# Altium integrated library TI Data Converters Analog to Digital Converter.IntLib: 2198 symbols (part 148 of 164)
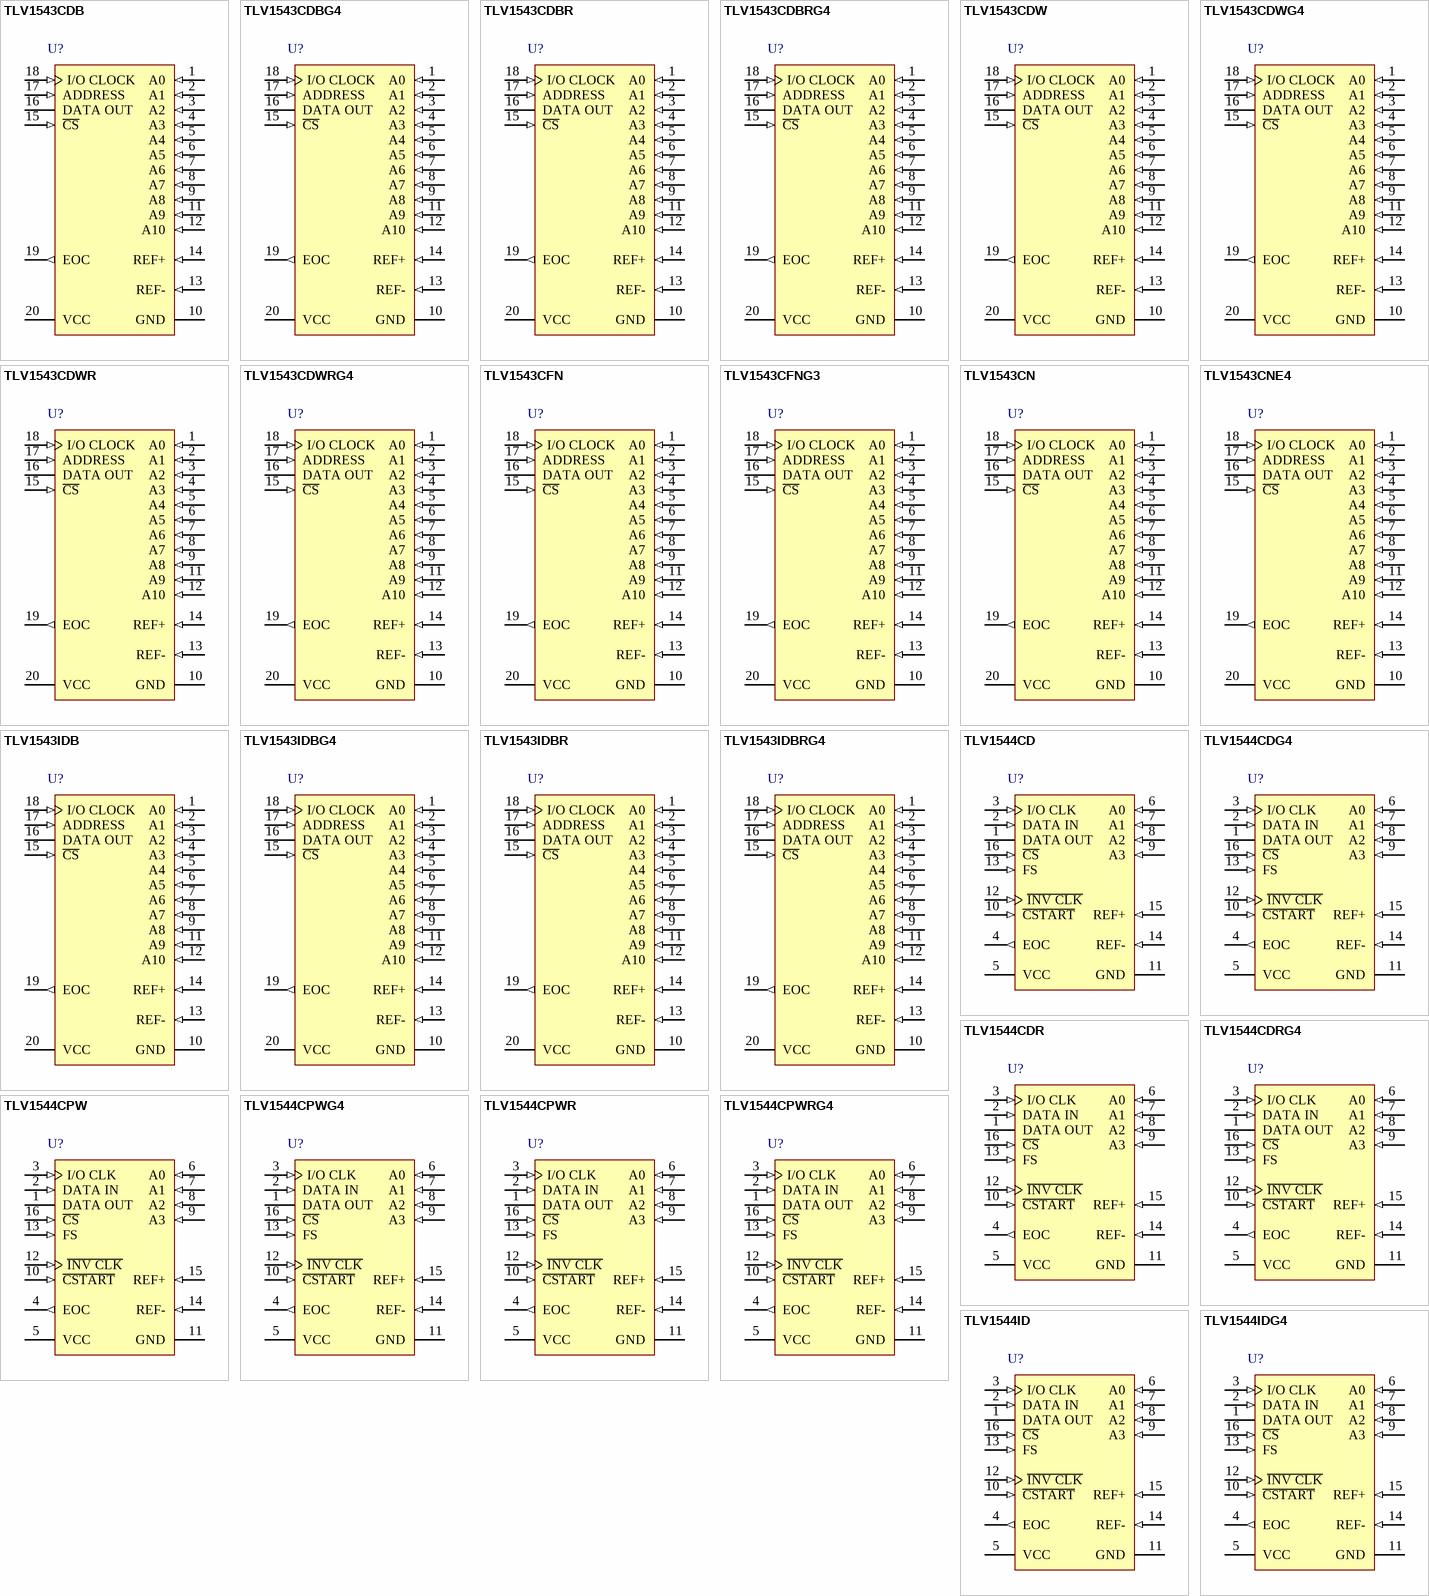
[diagram p273: symbols TLV1543CDB to TLV1544IDG4]

## TLV1543IDBR
designator U?
10-Bit 200 kSPS ADC Serial Out, Built-In Self-Test Mode, Inherent S&H, Pin Compatible with TLC1543, 11 Channel, -40 to 85 degC, 20-pin SOP (DB20), Green (RoHS & no Sb/Br); Manufacturer: Texas Instruments; PartNumber: TLV1543IDBR; # Input Channels: 11; Analog Voltage AV/DD(Max)(V): 5.5; Analog Voltage AV/DD(Min)(V): 3; Architecture: SAR; INL(Max)(+/-LSB): 1; Interface: Serial SPI; Resolution(Bits): 10; Sample Rate (max)(SPS): 38k; SubFamily: Precision ADC (<=10MSPS); DatasheetVersion: SLAS072E; PackageVersion: 4040065/E, 12/2001; PackageReference: DB20; PackageDescription: 20-Pin Plastic Small Outline, Body 5.3 x 7.2 mm, Pitch 0.65 mm; Supplier 1: Digi-Key; Supplier Part Number 1: ADS4226IRGCR-ND; Digital Supply(Max)(V): 5.5; Digital Supply(Min)(V): 3; Eco-Plan: Green (RoHS & no Sb/Br); Mounting Technology: Surface Mount; Code_JEDEC: MO-150; ComponentLink1Description: Manufacturer URL; ComponentLink1URL: http://www.ti.com/; ComponentLink2Description: Datasheet; ComponentLink2URL: http://www.ti.com/general/docs/lit/getliterature.tsp?genericPartNumber=TLV1543&fileType=pdf; ComponentLink3Description: Package Specification; ComponentLink3URL: http://www.ti.com/lit/ml/msso002e/msso002e.pdf
footprint TI-DB20_N (SOP, 20-Leads, Body 7.2x5.3mm, Pitch 0.65mm, IPC Medium Density)
footprint TI-DB20_L (SOP, 20-Leads, Body 7.2x5.3mm, Pitch 0.65mm, IPC High Density)
footprint TI-DB20_M (SOP, 20-Leads, Body 7.2x5.3mm, Pitch 0.65mm, IPC Low Density)
pins: 1 A0 (in) "Analog signal inputs. The 11 analog inputs are applied to these terminals and are internally multiplexed. The driving source impedance should be less than or equal to 1 kohm.", 2 A1 (in) "Analog signal inputs. The 11 analog inputs are applied to these terminals and are internally multiplexed. The driving source impedance should be less than or equal to 1 kohm.", 3 A2 (in) "Analog signal inputs. The 11 analog inputs are applied to these terminals and are internally multiplexed. The driving source impedance should be less than or equal to 1 kohm.", 4 A3 (in) "Analog signal inputs. The 11 analog inputs are applied to these terminals and are internally multiplexed. The driving source impedance should be less than or equal to 1 kohm.", 5 A4 (in) "Analog signal inputs. The 11 analog inputs are applied to these terminals and are internally multiplexed. The driving source impedance should be less than or equal to 1 kohm.", 6 A5 (in) "Analog signal inputs. The 11 analog inputs are applied to these terminals and are internally multiplexed. The driving source impedance should be less than or equal to 1 kohm.", 7 A6 (in) "Analog signal inputs. The 11 analog inputs are applied to these terminals and are internally multiplexed. The driving source impedance should be less than or equal to 1 kohm.", 8 A7 (in) "Analog signal inputs. The 11 analog inputs are applied to these terminals and are internally multiplexed. The driving source impedance should be less than or equal to 1 kohm.", 9 A8 (in) "Analog signal inputs. The 11 analog inputs are applied to these terminals and are internally multiplexed. The driving source impedance should be less than or equal to 1 kohm.", 10 GND (power) "The ground return terminal for the internal circuitry. Unless otherwise noted, all voltage measurements are with respect to this terminal.", 11 A9 (in) "Analog signal inputs. The 11 analog inputs are applied to these terminals and are internally multiplexed. The driving source impedance should be less than or equal to 1 kohm.", 12 A10 (in) "Analog signal inputs. The 11 analog inputs are applied to these terminals and are internally multiplexed. The driving source impedance should be less than or equal to 1 kohm.", 13 REF- (in) "The lower reference voltage value (nominally ground) is applied to this terminal.", 14 REF+ (in) "The upper reference voltage value (nominally VCC) is applied to this terminal. The maximum input voltage range is determined by the difference between the voltage applied to this terminal and the voltage applied to the REF- (See Datasheet)", 15 ~{CS} (in) "Chip select. A high-to-low transition on this input resets the internal counters and controls and enables DATA OUT, ADDRESS, and I/O CLOCK within a maximum of a setup time plus two falling edges of the internal system clock. (See Datasheet)", 16 DATA OUT (hiz) "The 3-state serial output for the A/D conversion result. This output is in the high-impedance state when C\S\ is high and active when C\S\ is low. With a valid chip select, DATA OUT is removed from the high-impedance state (See Datasheet)", 17 ADDRESS (in) "Serial address input. A 4-bit serial address selects the desired analog input or test voltage that is to be converted next. The address data is presented with the MSB first and shifts in on the first four rising edges of I/O (See Datasheet)", 18 I/O CLOCK (in) "Input/output clock. This terminal receives the serial I/O CLOCK input and performs the following four functions: 1) It clocks the four input address bits into the address register on the first four rising edges of the I/O (See Datasheet)", 19 EOC (out) "End of conversion. This output goes from a high to a low logic level on the trailing edge of the tenth I/O CLOCK and remains low until the conversion is complete and data are ready for transfer.", 20 VCC (power) "Positive supply voltage"

## TLV1543IDBRG4
designator U?
10-Bit 200 kSPS ADC Serial Out, Built-In Self-Test Mode, Inherent S&H, Pin Compatible with TLC1543, 11 Channel, -40 to 85 degC, 20-pin SOP (DB20), Green (RoHS & no Sb/Br); Manufacturer: Texas Instruments; PartNumber: TLV1543IDBRG4; # Input Channels: 11; Analog Voltage AV/DD(Max)(V): 5.5; Analog Voltage AV/DD(Min)(V): 3; Architecture: SAR; INL(Max)(+/-LSB): 1; Interface: Serial SPI; Resolution(Bits): 10; Sample Rate (max)(SPS): 38k; SubFamily: Precision ADC (<=10MSPS); DatasheetVersion: SLAS072E; PackageVersion: 4040065/E, 12/2001; PackageReference: DB20; PackageDescription: 20-Pin Plastic Small Outline, Body 5.3 x 7.2 mm, Pitch 0.65 mm; Supplier 1: Digi-Key; Supplier Part Number 1: 296-28366-2-ND; Digital Supply(Max)(V): 5.5; Digital Supply(Min)(V): 3; Eco-Plan: Green (RoHS & no Sb/Br); Mounting Technology: Surface Mount; Code_JEDEC: MO-150; ComponentLink1Description: Manufacturer URL; ComponentLink1URL: http://www.ti.com/; ComponentLink2Description: Datasheet; ComponentLink2URL: http://www.ti.com/general/docs/lit/getliterature.tsp?genericPartNumber=TLV1543&fileType=pdf; ComponentLink3Description: Package Specification; ComponentLink3URL: http://www.ti.com/lit/ml/msso002e/msso002e.pdf
footprint TI-DB20_N (SOP, 20-Leads, Body 7.2x5.3mm, Pitch 0.65mm, IPC Medium Density)
footprint TI-DB20_L (SOP, 20-Leads, Body 7.2x5.3mm, Pitch 0.65mm, IPC High Density)
footprint TI-DB20_M (SOP, 20-Leads, Body 7.2x5.3mm, Pitch 0.65mm, IPC Low Density)
pins: 1 A0 (in) "Analog signal inputs. The 11 analog inputs are applied to these terminals and are internally multiplexed. The driving source impedance should be less than or equal to 1 kohm.", 2 A1 (in) "Analog signal inputs. The 11 analog inputs are applied to these terminals and are internally multiplexed. The driving source impedance should be less than or equal to 1 kohm.", 3 A2 (in) "Analog signal inputs. The 11 analog inputs are applied to these terminals and are internally multiplexed. The driving source impedance should be less than or equal to 1 kohm.", 4 A3 (in) "Analog signal inputs. The 11 analog inputs are applied to these terminals and are internally multiplexed. The driving source impedance should be less than or equal to 1 kohm.", 5 A4 (in) "Analog signal inputs. The 11 analog inputs are applied to these terminals and are internally multiplexed. The driving source impedance should be less than or equal to 1 kohm.", 6 A5 (in) "Analog signal inputs. The 11 analog inputs are applied to these terminals and are internally multiplexed. The driving source impedance should be less than or equal to 1 kohm.", 7 A6 (in) "Analog signal inputs. The 11 analog inputs are applied to these terminals and are internally multiplexed. The driving source impedance should be less than or equal to 1 kohm.", 8 A7 (in) "Analog signal inputs. The 11 analog inputs are applied to these terminals and are internally multiplexed. The driving source impedance should be less than or equal to 1 kohm.", 9 A8 (in) "Analog signal inputs. The 11 analog inputs are applied to these terminals and are internally multiplexed. The driving source impedance should be less than or equal to 1 kohm.", 10 GND (power) "The ground return terminal for the internal circuitry. Unless otherwise noted, all voltage measurements are with respect to this terminal.", 11 A9 (in) "Analog signal inputs. The 11 analog inputs are applied to these terminals and are internally multiplexed. The driving source impedance should be less than or equal to 1 kohm.", 12 A10 (in) "Analog signal inputs. The 11 analog inputs are applied to these terminals and are internally multiplexed. The driving source impedance should be less than or equal to 1 kohm.", 13 REF- (in) "The lower reference voltage value (nominally ground) is applied to this terminal.", 14 REF+ (in) "The upper reference voltage value (nominally VCC) is applied to this terminal. The maximum input voltage range is determined by the difference between the voltage applied to this terminal and the voltage applied to the REF- (See Datasheet)", 15 ~{CS} (in) "Chip select. A high-to-low transition on this input resets the internal counters and controls and enables DATA OUT, ADDRESS, and I/O CLOCK within a maximum of a setup time plus two falling edges of the internal system clock. (See Datasheet)", 16 DATA OUT (hiz) "The 3-state serial output for the A/D conversion result. This output is in the high-impedance state when C\S\ is high and active when C\S\ is low. With a valid chip select, DATA OUT is removed from the high-impedance state (See Datasheet)", 17 ADDRESS (in) "Serial address input. A 4-bit serial address selects the desired analog input or test voltage that is to be converted next. The address data is presented with the MSB first and shifts in on the first four rising edges of I/O (See Datasheet)", 18 I/O CLOCK (in) "Input/output clock. This terminal receives the serial I/O CLOCK input and performs the following four functions: 1) It clocks the four input address bits into the address register on the first four rising edges of the I/O (See Datasheet)", 19 EOC (out) "End of conversion. This output goes from a high to a low logic level on the trailing edge of the tenth I/O CLOCK and remains low until the conversion is complete and data are ready for transfer.", 20 VCC (power) "Positive supply voltage"

## TLV1544CD
designator U?
10-Bit 85 kSPS ADC Serial Out, Programable Power / Power Down / Conversion Rate, TMS320 DSP / SPI / QPSI Compatible, 4 Channel, 0 to 70 degC, 16-pin SOIC (D16), Green (RoHS & no Sb/Br); Manufacturer: Texas Instruments; PartNumber: TLV1544CD; # Input Channels: 4; Analog Voltage AV/DD(Max)(V): 5.5; Analog Voltage AV/DD(Min)(V): 2.7; Architecture: SAR; INL(Max)(+/-LSB): 1; Interface: Serial SPI; Resolution(Bits): 10; Sample Rate (max)(SPS): 85k; SubFamily: Precision ADC (<=10MSPS); DatasheetVersion: SLAS139C; PackageVersion: 4040047-6/M, 06/2011; PackageReference: D16; PackageDescription: 16-Pin Plastic Small Outline, Body 9.9 x 3.9 mm, Pitch 1.27 mm; Supplier 1: Digi-Key; Supplier Part Number 1: ADS1298RIZXGR-ND; Digital Supply(Max)(V): 5.5; Digital Supply(Min)(V): 2.7; Eco-Plan: Green (RoHS & no Sb/Br); Mounting Technology: Surface Mount; Code_JEDEC: MS-012; ComponentLink1Description: Manufacturer URL; ComponentLink1URL: http://www.ti.com/; ComponentLink2Description: Datasheet; ComponentLink2URL: http://www.ti.com/general/docs/lit/getliterature.tsp?genericPartNumber=TLV1544&fileType=pdf; ComponentLink3Description: Package Specification; ComponentLink3URL: http://www.ti.com/litv/pdf/mpds178g
footprint TI-D16_N (SOIC, 16-Leads, Body 9.9x3.9mm, Pitch 1.27mm, IPC Medium Density)
footprint TI-D16_L (SOIC, 16-Leads, Body 9.9x3.9mm, Pitch 1.27mm, IPC High Density)
footprint TI-D16_M (SOIC, 16-Leads, Body 9.9x3.9mm, Pitch 1.27mm, IPC Low Density)
pins: 1 DATA OUT (hiz) "Three-state serial output of the A/D conversion result. DATA OUT is in the high-impedance state when C\S\ is high and active when C\S\ is low or after FS (in DSP mode). With a valid C\S\ signal, DATA OUT is removed from the (See Datasheet)", 2 DATA IN (in) "Serial data input. The 4-bit serial data selects the desired analog input and test voltage to be converted next in a normal cycle. These bits can also set the conversion rate and enable the power-down mode. When operating in (See Datasheet)", 3 I/O CLK (in) "Input/output clock.", 4 EOC (out) "End of conversion. EOC goes from a high to a low logic level on the tenth rising (microprocessor mode) or tenth falling (DSP mode) edge of I/O CLK and remains low until the conversion is complete and data is ready for (See Datasheet)", 5 VCC (power) "Positive supply voltage", 6 A0 (in) "Analog inputs. The analog inputs are internally multiplexed. (For a source impedance greater than 1 kW, the asynchronous start should be used to increase the sampling time.)", 7 A1 (in) "Analog inputs. The analog inputs are internally multiplexed. (For a source impedance greater than 1 kW, the asynchronous start should be used to increase the sampling time.)", 8 A2 (in) "Analog inputs. The analog inputs are internally multiplexed. (For a source impedance greater than 1 kW, the asynchronous start should be used to increase the sampling time.)", 9 A3 (in) "Analog inputs. The analog inputs are internally multiplexed. (For a source impedance greater than 1 kW, the asynchronous start should be used to increase the sampling time.)", 10 ~{CSTART} (in) "Sampling/conversion start control. C\S\T\A\R\T\ controls the start of the sampling of an analog input from a selected multiplex channel. A high-to-low transition starts the sampling of the analog input signal. A low-to-high (See Datasheet)", 11 GND (power) "Ground return for internal circuitry. All voltage measurements are with respect to GND, unless otherwise noted.", 12 ~{INV CLK} (in) "Inverted clock input. I\N\V\ \C\L\K\ is tied to GND when an inverted I/O CLK is used as the source of the input clock. This affects both microprocessor and DSP interfaces. I\N\V\ \C\L\K\ is tied to VCC if I/O CLK is not (See Datasheet)", 13 FS (in) "DSP frame synchronization input. FS indicates the start of a serial data frame into or out of the device. FS is tied to VCC when interfacing the device with a microprocessor.", 14 REF- (in) "Lower reference voltage (nominally ground)", 15 REF+ (in) "Upper reference voltage (nominally VCC ). The maximum input voltage range is determined by the difference between the voltages applied to REF+ and REF-.", 16 ~{CS} (in) "Chip select. A high-to-low transition on C\S\ resets the internal counters and controls and enables DATA IN, DATA OUT, and I/O CLK within the maximum setup time. A low-to-high transition disables DATA IN, DATA OUT, and I/O (See Datasheet)"

## TLV1544CDG4
designator U?
10-Bit 85 kSPS ADC Serial Out, Programable Power / Power Down / Conversion Rate, TMS320 DSP / SPI / QPSI Compatible, 4 Channel, 0 to 70 degC, 16-pin SOIC (D16), Green (RoHS & no Sb/Br); Manufacturer: Texas Instruments; PartNumber: TLV1544CDG4; # Input Channels: 4; Analog Voltage AV/DD(Max)(V): 5.5; Analog Voltage AV/DD(Min)(V): 2.7; Architecture: SAR; INL(Max)(+/-LSB): 1; Interface: Serial SPI; Resolution(Bits): 10; Sample Rate (max)(SPS): 85k; SubFamily: Precision ADC (<=10MSPS); DatasheetVersion: SLAS139C; PackageVersion: 4040047-6/M, 06/2011; PackageReference: D16; PackageDescription: 16-Pin Plastic Small Outline, Body 9.9 x 3.9 mm, Pitch 1.27 mm; Supplier 1: Digi-Key; Supplier Part Number 1: 296-28273-2-ND; Digital Supply(Max)(V): 5.5; Digital Supply(Min)(V): 2.7; Eco-Plan: Green (RoHS & no Sb/Br); Mounting Technology: Surface Mount; Code_JEDEC: MS-012; ComponentLink1Description: Manufacturer URL; ComponentLink1URL: http://www.ti.com/; ComponentLink2Description: Datasheet; ComponentLink2URL: http://www.ti.com/general/docs/lit/getliterature.tsp?genericPartNumber=TLV1544&fileType=pdf; ComponentLink3Description: Package Specification; ComponentLink3URL: http://www.ti.com/litv/pdf/mpds178g
footprint TI-D16_N (SOIC, 16-Leads, Body 9.9x3.9mm, Pitch 1.27mm, IPC Medium Density)
footprint TI-D16_L (SOIC, 16-Leads, Body 9.9x3.9mm, Pitch 1.27mm, IPC High Density)
footprint TI-D16_M (SOIC, 16-Leads, Body 9.9x3.9mm, Pitch 1.27mm, IPC Low Density)
pins: 1 DATA OUT (hiz) "Three-state serial output of the A/D conversion result. DATA OUT is in the high-impedance state when C\S\ is high and active when C\S\ is low or after FS (in DSP mode). With a valid C\S\ signal, DATA OUT is removed from the (See Datasheet)", 2 DATA IN (in) "Serial data input. The 4-bit serial data selects the desired analog input and test voltage to be converted next in a normal cycle. These bits can also set the conversion rate and enable the power-down mode. When operating in (See Datasheet)", 3 I/O CLK (in) "Input/output clock.", 4 EOC (out) "End of conversion. EOC goes from a high to a low logic level on the tenth rising (microprocessor mode) or tenth falling (DSP mode) edge of I/O CLK and remains low until the conversion is complete and data is ready for (See Datasheet)", 5 VCC (power) "Positive supply voltage", 6 A0 (in) "Analog inputs. The analog inputs are internally multiplexed. (For a source impedance greater than 1 kW, the asynchronous start should be used to increase the sampling time.)", 7 A1 (in) "Analog inputs. The analog inputs are internally multiplexed. (For a source impedance greater than 1 kW, the asynchronous start should be used to increase the sampling time.)", 8 A2 (in) "Analog inputs. The analog inputs are internally multiplexed. (For a source impedance greater than 1 kW, the asynchronous start should be used to increase the sampling time.)", 9 A3 (in) "Analog inputs. The analog inputs are internally multiplexed. (For a source impedance greater than 1 kW, the asynchronous start should be used to increase the sampling time.)", 10 ~{CSTART} (in) "Sampling/conversion start control. C\S\T\A\R\T\ controls the start of the sampling of an analog input from a selected multiplex channel. A high-to-low transition starts the sampling of the analog input signal. A low-to-high (See Datasheet)", 11 GND (power) "Ground return for internal circuitry. All voltage measurements are with respect to GND, unless otherwise noted.", 12 ~{INV CLK} (in) "Inverted clock input. I\N\V\ \C\L\K\ is tied to GND when an inverted I/O CLK is used as the source of the input clock. This affects both microprocessor and DSP interfaces. I\N\V\ \C\L\K\ is tied to VCC if I/O CLK is not (See Datasheet)", 13 FS (in) "DSP frame synchronization input. FS indicates the start of a serial data frame into or out of the device. FS is tied to VCC when interfacing the device with a microprocessor.", 14 REF- (in) "Lower reference voltage (nominally ground)", 15 REF+ (in) "Upper reference voltage (nominally VCC ). The maximum input voltage range is determined by the difference between the voltages applied to REF+ and REF-.", 16 ~{CS} (in) "Chip select. A high-to-low transition on C\S\ resets the internal counters and controls and enables DATA IN, DATA OUT, and I/O CLK within the maximum setup time. A low-to-high transition disables DATA IN, DATA OUT, and I/O (See Datasheet)"

## TLV1544CDR
designator U?
10-Bit 85 kSPS ADC Serial Out, Programable Power / Power Down / Conversion Rate, TMS320 DSP / SPI / QPSI Compatible, 4 Channel, 0 to 70 degC, 16-pin SOIC (D16), Green (RoHS & no Sb/Br); Manufacturer: Texas Instruments; PartNumber: TLV1544CDR; # Input Channels: 4; Analog Voltage AV/DD(Max)(V): 5.5; Analog Voltage AV/DD(Min)(V): 2.7; Architecture: SAR; INL(Max)(+/-LSB): 1; Interface: Serial SPI; Resolution(Bits): 10; Sample Rate (max)(SPS): 85k; SubFamily: Precision ADC (<=10MSPS); DatasheetVersion: SLAS139C; PackageVersion: 4040047-6/M, 06/2011; PackageReference: D16; PackageDescription: 16-Pin Plastic Small Outline, Body 9.9 x 3.9 mm, Pitch 1.27 mm; Supplier 1: Digi-Key; Supplier Part Number 1: AMC7812SPAP-ND; Digital Supply(Max)(V): 5.5; Digital Supply(Min)(V): 2.7; Eco-Plan: Green (RoHS & no Sb/Br); Mounting Technology: Surface Mount; Code_JEDEC: MS-012; ComponentLink1Description: Manufacturer URL; ComponentLink1URL: http://www.ti.com/; ComponentLink2Description: Datasheet; ComponentLink2URL: http://www.ti.com/general/docs/lit/getliterature.tsp?genericPartNumber=TLV1544&fileType=pdf; ComponentLink3Description: Package Specification; ComponentLink3URL: http://www.ti.com/litv/pdf/mpds178g
footprint TI-D16_N (SOIC, 16-Leads, Body 9.9x3.9mm, Pitch 1.27mm, IPC Medium Density)
footprint TI-D16_L (SOIC, 16-Leads, Body 9.9x3.9mm, Pitch 1.27mm, IPC High Density)
footprint TI-D16_M (SOIC, 16-Leads, Body 9.9x3.9mm, Pitch 1.27mm, IPC Low Density)
pins: 1 DATA OUT (hiz) "Three-state serial output of the A/D conversion result. DATA OUT is in the high-impedance state when C\S\ is high and active when C\S\ is low or after FS (in DSP mode). With a valid C\S\ signal, DATA OUT is removed from the (See Datasheet)", 2 DATA IN (in) "Serial data input. The 4-bit serial data selects the desired analog input and test voltage to be converted next in a normal cycle. These bits can also set the conversion rate and enable the power-down mode. When operating in (See Datasheet)", 3 I/O CLK (in) "Input/output clock.", 4 EOC (out) "End of conversion. EOC goes from a high to a low logic level on the tenth rising (microprocessor mode) or tenth falling (DSP mode) edge of I/O CLK and remains low until the conversion is complete and data is ready for (See Datasheet)", 5 VCC (power) "Positive supply voltage", 6 A0 (in) "Analog inputs. The analog inputs are internally multiplexed. (For a source impedance greater than 1 kW, the asynchronous start should be used to increase the sampling time.)", 7 A1 (in) "Analog inputs. The analog inputs are internally multiplexed. (For a source impedance greater than 1 kW, the asynchronous start should be used to increase the sampling time.)", 8 A2 (in) "Analog inputs. The analog inputs are internally multiplexed. (For a source impedance greater than 1 kW, the asynchronous start should be used to increase the sampling time.)", 9 A3 (in) "Analog inputs. The analog inputs are internally multiplexed. (For a source impedance greater than 1 kW, the asynchronous start should be used to increase the sampling time.)", 10 ~{CSTART} (in) "Sampling/conversion start control. C\S\T\A\R\T\ controls the start of the sampling of an analog input from a selected multiplex channel. A high-to-low transition starts the sampling of the analog input signal. A low-to-high (See Datasheet)", 11 GND (power) "Ground return for internal circuitry. All voltage measurements are with respect to GND, unless otherwise noted.", 12 ~{INV CLK} (in) "Inverted clock input. I\N\V\ \C\L\K\ is tied to GND when an inverted I/O CLK is used as the source of the input clock. This affects both microprocessor and DSP interfaces. I\N\V\ \C\L\K\ is tied to VCC if I/O CLK is not (See Datasheet)", 13 FS (in) "DSP frame synchronization input. FS indicates the start of a serial data frame into or out of the device. FS is tied to VCC when interfacing the device with a microprocessor.", 14 REF- (in) "Lower reference voltage (nominally ground)", 15 REF+ (in) "Upper reference voltage (nominally VCC ). The maximum input voltage range is determined by the difference between the voltages applied to REF+ and REF-.", 16 ~{CS} (in) "Chip select. A high-to-low transition on C\S\ resets the internal counters and controls and enables DATA IN, DATA OUT, and I/O CLK within the maximum setup time. A low-to-high transition disables DATA IN, DATA OUT, and I/O (See Datasheet)"

## TLV1544CDRG4
designator U?
10-Bit 85 kSPS ADC Serial Out, Programable Power / Power Down / Conversion Rate, TMS320 DSP / SPI / QPSI Compatible, 4 Channel, 0 to 70 degC, 16-pin SOIC (D16), Green (RoHS & no Sb/Br); Manufacturer: Texas Instruments; PartNumber: TLV1544CDRG4; # Input Channels: 4; Analog Voltage AV/DD(Max)(V): 5.5; Analog Voltage AV/DD(Min)(V): 2.7; Architecture: SAR; INL(Max)(+/-LSB): 1; Interface: Serial SPI; Resolution(Bits): 10; Sample Rate (max)(SPS): 85k; SubFamily: Precision ADC (<=10MSPS); DatasheetVersion: SLAS139C; PackageVersion: 4040047-6/M, 06/2011; PackageReference: D16; PackageDescription: 16-Pin Plastic Small Outline, Body 9.9 x 3.9 mm, Pitch 1.27 mm; Supplier 1: Digi-Key; Supplier Part Number 1: ADS8363SRHBR-ND; Digital Supply(Max)(V): 5.5; Digital Supply(Min)(V): 2.7; Eco-Plan: Green (RoHS & no Sb/Br); Mounting Technology: Surface Mount; Code_JEDEC: MS-012; ComponentLink1Description: Manufacturer URL; ComponentLink1URL: http://www.ti.com/; ComponentLink2Description: Datasheet; ComponentLink2URL: http://www.ti.com/general/docs/lit/getliterature.tsp?genericPartNumber=TLV1544&fileType=pdf; ComponentLink3Description: Package Specification; ComponentLink3URL: http://www.ti.com/litv/pdf/mpds178g
footprint TI-D16_N (SOIC, 16-Leads, Body 9.9x3.9mm, Pitch 1.27mm, IPC Medium Density)
footprint TI-D16_L (SOIC, 16-Leads, Body 9.9x3.9mm, Pitch 1.27mm, IPC High Density)
footprint TI-D16_M (SOIC, 16-Leads, Body 9.9x3.9mm, Pitch 1.27mm, IPC Low Density)
pins: 1 DATA OUT (hiz) "Three-state serial output of the A/D conversion result. DATA OUT is in the high-impedance state when C\S\ is high and active when C\S\ is low or after FS (in DSP mode). With a valid C\S\ signal, DATA OUT is removed from the (See Datasheet)", 2 DATA IN (in) "Serial data input. The 4-bit serial data selects the desired analog input and test voltage to be converted next in a normal cycle. These bits can also set the conversion rate and enable the power-down mode. When operating in (See Datasheet)", 3 I/O CLK (in) "Input/output clock.", 4 EOC (out) "End of conversion. EOC goes from a high to a low logic level on the tenth rising (microprocessor mode) or tenth falling (DSP mode) edge of I/O CLK and remains low until the conversion is complete and data is ready for (See Datasheet)", 5 VCC (power) "Positive supply voltage", 6 A0 (in) "Analog inputs. The analog inputs are internally multiplexed. (For a source impedance greater than 1 kW, the asynchronous start should be used to increase the sampling time.)", 7 A1 (in) "Analog inputs. The analog inputs are internally multiplexed. (For a source impedance greater than 1 kW, the asynchronous start should be used to increase the sampling time.)", 8 A2 (in) "Analog inputs. The analog inputs are internally multiplexed. (For a source impedance greater than 1 kW, the asynchronous start should be used to increase the sampling time.)", 9 A3 (in) "Analog inputs. The analog inputs are internally multiplexed. (For a source impedance greater than 1 kW, the asynchronous start should be used to increase the sampling time.)", 10 ~{CSTART} (in) "Sampling/conversion start control. C\S\T\A\R\T\ controls the start of the sampling of an analog input from a selected multiplex channel. A high-to-low transition starts the sampling of the analog input signal. A low-to-high (See Datasheet)", 11 GND (power) "Ground return for internal circuitry. All voltage measurements are with respect to GND, unless otherwise noted.", 12 ~{INV CLK} (in) "Inverted clock input. I\N\V\ \C\L\K\ is tied to GND when an inverted I/O CLK is used as the source of the input clock. This affects both microprocessor and DSP interfaces. I\N\V\ \C\L\K\ is tied to VCC if I/O CLK is not (See Datasheet)", 13 FS (in) "DSP frame synchronization input. FS indicates the start of a serial data frame into or out of the device. FS is tied to VCC when interfacing the device with a microprocessor.", 14 REF- (in) "Lower reference voltage (nominally ground)", 15 REF+ (in) "Upper reference voltage (nominally VCC ). The maximum input voltage range is determined by the difference between the voltages applied to REF+ and REF-.", 16 ~{CS} (in) "Chip select. A high-to-low transition on C\S\ resets the internal counters and controls and enables DATA IN, DATA OUT, and I/O CLK within the maximum setup time. A low-to-high transition disables DATA IN, DATA OUT, and I/O (See Datasheet)"

## TLV1544CPW
designator U?
10-Bit 85 kSPS ADC Serial Out, Programable Power / Power Down / Conversion Rate, TMS320 DSP / SPI / QPSI Compatible, 4 Channel, 0 to 70 degC, 16-pin SOP (PW16), Green (RoHS & no Sb/Br); Manufacturer: Texas Instruments; PartNumber: TLV1544CPW; # Input Channels: 4; Analog Voltage AV/DD(Max)(V): 5.5; Analog Voltage AV/DD(Min)(V): 2.7; Architecture: SAR; INL(Max)(+/-LSB): 1; Interface: Serial SPI; Resolution(Bits): 10; Sample Rate (max)(SPS): 85k; SubFamily: Precision ADC (<=10MSPS); DatasheetVersion: SLAS139C; PackageVersion: 4040064-4/G, 02/2011; PackageReference: PW16; PackageDescription: 16-Pin Plastic Small Outline, Body 5 x 4.4 mm, Pitch 0.65 mm; Supplier 1: Digi-Key; Supplier Part Number 1: 296-28188-2-ND; Digital Supply(Max)(V): 5.5; Digital Supply(Min)(V): 2.7; Eco-Plan: Green (RoHS & no Sb/Br); Mounting Technology: Surface Mount; Code_JEDEC: MO-153; ComponentLink1Description: Manufacturer URL; ComponentLink1URL: http://www.ti.com/; ComponentLink2Description: Datasheet; ComponentLink2URL: http://www.ti.com/general/docs/lit/getliterature.tsp?genericPartNumber=TLV1544&fileType=pdf; ComponentLink3Description: Package Specification; ComponentLink3URL: http://www.ti.com/lit/ml/mpds361/mpds361.pdf
footprint TI-PW16_N (SOP, 16-Leads, Body 5x4.4mm, Pitch 0.65mm, IPC Medium Density)
footprint TI-PW16_L (SOP, 16-Leads, Body 5x4.4mm, Pitch 0.65mm, IPC High Density)
footprint TI-PW16_M (SOP, 16-Leads, Body 5x4.4mm, Pitch 0.65mm, IPC Low Density)
pins: 1 DATA OUT (hiz) "Three-state serial output of the A/D conversion result. DATA OUT is in the high-impedance state when C\S\ is high and active when C\S\ is low or after FS (in DSP mode). With a valid C\S\ signal, DATA OUT is removed from the (See Datasheet)", 2 DATA IN (in) "Serial data input. The 4-bit serial data selects the desired analog input and test voltage to be converted next in a normal cycle. These bits can also set the conversion rate and enable the power-down mode. When operating in (See Datasheet)", 3 I/O CLK (in) "Input/output clock.", 4 EOC (out) "End of conversion. EOC goes from a high to a low logic level on the tenth rising (microprocessor mode) or tenth falling (DSP mode) edge of I/O CLK and remains low until the conversion is complete and data is ready for (See Datasheet)", 5 VCC (power) "Positive supply voltage", 6 A0 (in) "Analog inputs. The analog inputs are internally multiplexed. (For a source impedance greater than 1 kW, the asynchronous start should be used to increase the sampling time.)", 7 A1 (in) "Analog inputs. The analog inputs are internally multiplexed. (For a source impedance greater than 1 kW, the asynchronous start should be used to increase the sampling time.)", 8 A2 (in) "Analog inputs. The analog inputs are internally multiplexed. (For a source impedance greater than 1 kW, the asynchronous start should be used to increase the sampling time.)", 9 A3 (in) "Analog inputs. The analog inputs are internally multiplexed. (For a source impedance greater than 1 kW, the asynchronous start should be used to increase the sampling time.)", 10 ~{CSTART} (in) "Sampling/conversion start control. C\S\T\A\R\T\ controls the start of the sampling of an analog input from a selected multiplex channel. A high-to-low transition starts the sampling of the analog input signal. A low-to-high (See Datasheet)", 11 GND (power) "Ground return for internal circuitry. All voltage measurements are with respect to GND, unless otherwise noted.", 12 ~{INV CLK} (in) "Inverted clock input. I\N\V\ \C\L\K\ is tied to GND when an inverted I/O CLK is used as the source of the input clock. This affects both microprocessor and DSP interfaces. I\N\V\ \C\L\K\ is tied to VCC if I/O CLK is not (See Datasheet)", 13 FS (in) "DSP frame synchronization input. FS indicates the start of a serial data frame into or out of the device. FS is tied to VCC when interfacing the device with a microprocessor.", 14 REF- (in) "Lower reference voltage (nominally ground)", 15 REF+ (in) "Upper reference voltage (nominally VCC ). The maximum input voltage range is determined by the difference between the voltages applied to REF+ and REF-.", 16 ~{CS} (in) "Chip select. A high-to-low transition on C\S\ resets the internal counters and controls and enables DATA IN, DATA OUT, and I/O CLK within the maximum setup time. A low-to-high transition disables DATA IN, DATA OUT, and I/O (See Datasheet)"

## TLV1544CPWG4
designator U?
10-Bit 85 kSPS ADC Serial Out, Programable Power / Power Down / Conversion Rate, TMS320 DSP / SPI / QPSI Compatible, 4 Channel, 0 to 70 degC, 16-pin SOP (PW16), Green (RoHS & no Sb/Br); Manufacturer: Texas Instruments; PartNumber: TLV1544CPWG4; # Input Channels: 4; Analog Voltage AV/DD(Max)(V): 5.5; Analog Voltage AV/DD(Min)(V): 2.7; Architecture: SAR; INL(Max)(+/-LSB): 1; Interface: Serial SPI; Resolution(Bits): 10; Sample Rate (max)(SPS): 85k; SubFamily: Precision ADC (<=10MSPS); DatasheetVersion: SLAS139C; PackageVersion: 4040064-4/G, 02/2011; PackageReference: PW16; PackageDescription: 16-Pin Plastic Small Outline, Body 5 x 4.4 mm, Pitch 0.65 mm; Supplier 1: Digi-Key; Supplier Part Number 1: DDC264CKZAW-ND; Digital Supply(Max)(V): 5.5; Digital Supply(Min)(V): 2.7; Eco-Plan: Green (RoHS & no Sb/Br); Mounting Technology: Surface Mount; Code_JEDEC: MO-153; ComponentLink1Description: Manufacturer URL; ComponentLink1URL: http://www.ti.com/; ComponentLink2Description: Datasheet; ComponentLink2URL: http://www.ti.com/general/docs/lit/getliterature.tsp?genericPartNumber=TLV1544&fileType=pdf; ComponentLink3Description: Package Specification; ComponentLink3URL: http://www.ti.com/lit/ml/mpds361/mpds361.pdf
footprint TI-PW16_N (SOP, 16-Leads, Body 5x4.4mm, Pitch 0.65mm, IPC Medium Density)
footprint TI-PW16_L (SOP, 16-Leads, Body 5x4.4mm, Pitch 0.65mm, IPC High Density)
footprint TI-PW16_M (SOP, 16-Leads, Body 5x4.4mm, Pitch 0.65mm, IPC Low Density)
pins: 1 DATA OUT (hiz) "Three-state serial output of the A/D conversion result. DATA OUT is in the high-impedance state when C\S\ is high and active when C\S\ is low or after FS (in DSP mode). With a valid C\S\ signal, DATA OUT is removed from the (See Datasheet)", 2 DATA IN (in) "Serial data input. The 4-bit serial data selects the desired analog input and test voltage to be converted next in a normal cycle. These bits can also set the conversion rate and enable the power-down mode. When operating in (See Datasheet)", 3 I/O CLK (in) "Input/output clock.", 4 EOC (out) "End of conversion. EOC goes from a high to a low logic level on the tenth rising (microprocessor mode) or tenth falling (DSP mode) edge of I/O CLK and remains low until the conversion is complete and data is ready for (See Datasheet)", 5 VCC (power) "Positive supply voltage", 6 A0 (in) "Analog inputs. The analog inputs are internally multiplexed. (For a source impedance greater than 1 kW, the asynchronous start should be used to increase the sampling time.)", 7 A1 (in) "Analog inputs. The analog inputs are internally multiplexed. (For a source impedance greater than 1 kW, the asynchronous start should be used to increase the sampling time.)", 8 A2 (in) "Analog inputs. The analog inputs are internally multiplexed. (For a source impedance greater than 1 kW, the asynchronous start should be used to increase the sampling time.)", 9 A3 (in) "Analog inputs. The analog inputs are internally multiplexed. (For a source impedance greater than 1 kW, the asynchronous start should be used to increase the sampling time.)", 10 ~{CSTART} (in) "Sampling/conversion start control. C\S\T\A\R\T\ controls the start of the sampling of an analog input from a selected multiplex channel. A high-to-low transition starts the sampling of the analog input signal. A low-to-high (See Datasheet)", 11 GND (power) "Ground return for internal circuitry. All voltage measurements are with respect to GND, unless otherwise noted.", 12 ~{INV CLK} (in) "Inverted clock input. I\N\V\ \C\L\K\ is tied to GND when an inverted I/O CLK is used as the source of the input clock. This affects both microprocessor and DSP interfaces. I\N\V\ \C\L\K\ is tied to VCC if I/O CLK is not (See Datasheet)", 13 FS (in) "DSP frame synchronization input. FS indicates the start of a serial data frame into or out of the device. FS is tied to VCC when interfacing the device with a microprocessor.", 14 REF- (in) "Lower reference voltage (nominally ground)", 15 REF+ (in) "Upper reference voltage (nominally VCC ). The maximum input voltage range is determined by the difference between the voltages applied to REF+ and REF-.", 16 ~{CS} (in) "Chip select. A high-to-low transition on C\S\ resets the internal counters and controls and enables DATA IN, DATA OUT, and I/O CLK within the maximum setup time. A low-to-high transition disables DATA IN, DATA OUT, and I/O (See Datasheet)"

## TLV1544CPWR
designator U?
10-Bit 85 kSPS ADC Serial Out, Programable Power / Power Down / Conversion Rate, TMS320 DSP / SPI / QPSI Compatible, 4 Channel, 0 to 70 degC, 16-pin SOP (PW16), Green (RoHS & no Sb/Br); Manufacturer: Texas Instruments; PartNumber: TLV1544CPWR; # Input Channels: 4; Analog Voltage AV/DD(Max)(V): 5.5; Analog Voltage AV/DD(Min)(V): 2.7; Architecture: SAR; INL(Max)(+/-LSB): 1; Interface: Serial SPI; Resolution(Bits): 10; Sample Rate (max)(SPS): 85k; SubFamily: Precision ADC (<=10MSPS); DatasheetVersion: SLAS139C; PackageVersion: 4040064-4/G, 02/2011; PackageReference: PW16; PackageDescription: 16-Pin Plastic Small Outline, Body 5 x 4.4 mm, Pitch 0.65 mm; Supplier 1: Digi-Key; Supplier Part Number 1: DDC264CKZAWR-ND; Digital Supply(Max)(V): 5.5; Digital Supply(Min)(V): 2.7; Eco-Plan: Green (RoHS & no Sb/Br); Mounting Technology: Surface Mount; Code_JEDEC: MO-153; ComponentLink1Description: Manufacturer URL; ComponentLink1URL: http://www.ti.com/; ComponentLink2Description: Datasheet; ComponentLink2URL: http://www.ti.com/general/docs/lit/getliterature.tsp?genericPartNumber=TLV1544&fileType=pdf; ComponentLink3Description: Package Specification; ComponentLink3URL: http://www.ti.com/lit/ml/mpds361/mpds361.pdf
footprint TI-PW16_N (SOP, 16-Leads, Body 5x4.4mm, Pitch 0.65mm, IPC Medium Density)
footprint TI-PW16_L (SOP, 16-Leads, Body 5x4.4mm, Pitch 0.65mm, IPC High Density)
footprint TI-PW16_M (SOP, 16-Leads, Body 5x4.4mm, Pitch 0.65mm, IPC Low Density)
pins: 1 DATA OUT (hiz) "Three-state serial output of the A/D conversion result. DATA OUT is in the high-impedance state when C\S\ is high and active when C\S\ is low or after FS (in DSP mode). With a valid C\S\ signal, DATA OUT is removed from the (See Datasheet)", 2 DATA IN (in) "Serial data input. The 4-bit serial data selects the desired analog input and test voltage to be converted next in a normal cycle. These bits can also set the conversion rate and enable the power-down mode. When operating in (See Datasheet)", 3 I/O CLK (in) "Input/output clock.", 4 EOC (out) "End of conversion. EOC goes from a high to a low logic level on the tenth rising (microprocessor mode) or tenth falling (DSP mode) edge of I/O CLK and remains low until the conversion is complete and data is ready for (See Datasheet)", 5 VCC (power) "Positive supply voltage", 6 A0 (in) "Analog inputs. The analog inputs are internally multiplexed. (For a source impedance greater than 1 kW, the asynchronous start should be used to increase the sampling time.)", 7 A1 (in) "Analog inputs. The analog inputs are internally multiplexed. (For a source impedance greater than 1 kW, the asynchronous start should be used to increase the sampling time.)", 8 A2 (in) "Analog inputs. The analog inputs are internally multiplexed. (For a source impedance greater than 1 kW, the asynchronous start should be used to increase the sampling time.)", 9 A3 (in) "Analog inputs. The analog inputs are internally multiplexed. (For a source impedance greater than 1 kW, the asynchronous start should be used to increase the sampling time.)", 10 ~{CSTART} (in) "Sampling/conversion start control. C\S\T\A\R\T\ controls the start of the sampling of an analog input from a selected multiplex channel. A high-to-low transition starts the sampling of the analog input signal. A low-to-high (See Datasheet)", 11 GND (power) "Ground return for internal circuitry. All voltage measurements are with respect to GND, unless otherwise noted.", 12 ~{INV CLK} (in) "Inverted clock input. I\N\V\ \C\L\K\ is tied to GND when an inverted I/O CLK is used as the source of the input clock. This affects both microprocessor and DSP interfaces. I\N\V\ \C\L\K\ is tied to VCC if I/O CLK is not (See Datasheet)", 13 FS (in) "DSP frame synchronization input. FS indicates the start of a serial data frame into or out of the device. FS is tied to VCC when interfacing the device with a microprocessor.", 14 REF- (in) "Lower reference voltage (nominally ground)", 15 REF+ (in) "Upper reference voltage (nominally VCC ). The maximum input voltage range is determined by the difference between the voltages applied to REF+ and REF-.", 16 ~{CS} (in) "Chip select. A high-to-low transition on C\S\ resets the internal counters and controls and enables DATA IN, DATA OUT, and I/O CLK within the maximum setup time. A low-to-high transition disables DATA IN, DATA OUT, and I/O (See Datasheet)"

## TLV1544CPWRG4
designator U?
10-Bit 85 kSPS ADC Serial Out, Programable Power / Power Down / Conversion Rate, TMS320 DSP / SPI / QPSI Compatible, 4 Channel, 0 to 70 degC, 16-pin SOP (PW16), Green (RoHS & no Sb/Br); Manufacturer: Texas Instruments; PartNumber: TLV1544CPWRG4; # Input Channels: 4; Analog Voltage AV/DD(Max)(V): 5.5; Analog Voltage AV/DD(Min)(V): 2.7; Architecture: SAR; INL(Max)(+/-LSB): 1; Interface: Serial SPI; Resolution(Bits): 10; Sample Rate (max)(SPS): 85k; SubFamily: Precision ADC (<=10MSPS); DatasheetVersion: SLAS139C; PackageVersion: 4040064-4/G, 02/2011; PackageReference: PW16; PackageDescription: 16-Pin Plastic Small Outline, Body 5 x 4.4 mm, Pitch 0.65 mm; Supplier 1: Digi-Key; Supplier Part Number 1: DDC264CZAW-ND; Digital Supply(Max)(V): 5.5; Digital Supply(Min)(V): 2.7; Eco-Plan: Green (RoHS & no Sb/Br); Mounting Technology: Surface Mount; Code_JEDEC: MO-153; ComponentLink1Description: Manufacturer URL; ComponentLink1URL: http://www.ti.com/; ComponentLink2Description: Datasheet; ComponentLink2URL: http://www.ti.com/general/docs/lit/getliterature.tsp?genericPartNumber=TLV1544&fileType=pdf; ComponentLink3Description: Package Specification; ComponentLink3URL: http://www.ti.com/lit/ml/mpds361/mpds361.pdf
footprint TI-PW16_N (SOP, 16-Leads, Body 5x4.4mm, Pitch 0.65mm, IPC Medium Density)
footprint TI-PW16_L (SOP, 16-Leads, Body 5x4.4mm, Pitch 0.65mm, IPC High Density)
footprint TI-PW16_M (SOP, 16-Leads, Body 5x4.4mm, Pitch 0.65mm, IPC Low Density)
pins: 1 DATA OUT (hiz) "Three-state serial output of the A/D conversion result. DATA OUT is in the high-impedance state when C\S\ is high and active when C\S\ is low or after FS (in DSP mode). With a valid C\S\ signal, DATA OUT is removed from the (See Datasheet)", 2 DATA IN (in) "Serial data input. The 4-bit serial data selects the desired analog input and test voltage to be converted next in a normal cycle. These bits can also set the conversion rate and enable the power-down mode. When operating in (See Datasheet)", 3 I/O CLK (in) "Input/output clock.", 4 EOC (out) "End of conversion. EOC goes from a high to a low logic level on the tenth rising (microprocessor mode) or tenth falling (DSP mode) edge of I/O CLK and remains low until the conversion is complete and data is ready for (See Datasheet)", 5 VCC (power) "Positive supply voltage", 6 A0 (in) "Analog inputs. The analog inputs are internally multiplexed. (For a source impedance greater than 1 kW, the asynchronous start should be used to increase the sampling time.)", 7 A1 (in) "Analog inputs. The analog inputs are internally multiplexed. (For a source impedance greater than 1 kW, the asynchronous start should be used to increase the sampling time.)", 8 A2 (in) "Analog inputs. The analog inputs are internally multiplexed. (For a source impedance greater than 1 kW, the asynchronous start should be used to increase the sampling time.)", 9 A3 (in) "Analog inputs. The analog inputs are internally multiplexed. (For a source impedance greater than 1 kW, the asynchronous start should be used to increase the sampling time.)", 10 ~{CSTART} (in) "Sampling/conversion start control. C\S\T\A\R\T\ controls the start of the sampling of an analog input from a selected multiplex channel. A high-to-low transition starts the sampling of the analog input signal. A low-to-high (See Datasheet)", 11 GND (power) "Ground return for internal circuitry. All voltage measurements are with respect to GND, unless otherwise noted.", 12 ~{INV CLK} (in) "Inverted clock input. I\N\V\ \C\L\K\ is tied to GND when an inverted I/O CLK is used as the source of the input clock. This affects both microprocessor and DSP interfaces. I\N\V\ \C\L\K\ is tied to VCC if I/O CLK is not (See Datasheet)", 13 FS (in) "DSP frame synchronization input. FS indicates the start of a serial data frame into or out of the device. FS is tied to VCC when interfacing the device with a microprocessor.", 14 REF- (in) "Lower reference voltage (nominally ground)", 15 REF+ (in) "Upper reference voltage (nominally VCC ). The maximum input voltage range is determined by the difference between the voltages applied to REF+ and REF-.", 16 ~{CS} (in) "Chip select. A high-to-low transition on C\S\ resets the internal counters and controls and enables DATA IN, DATA OUT, and I/O CLK within the maximum setup time. A low-to-high transition disables DATA IN, DATA OUT, and I/O (See Datasheet)"